# Altium footprint library V420LA10P.PcbLib: 1 footprints
Each footprint in its own frame and in the unit in brackets; x right, y up, seen from the top. Pads: shape width x height; smd on the part's side, far side on the other; paste and mask are expansions set on the pad; w line width, h text height; cw(c..) or ccw(c..) is an arc to the next point about the centre after c.
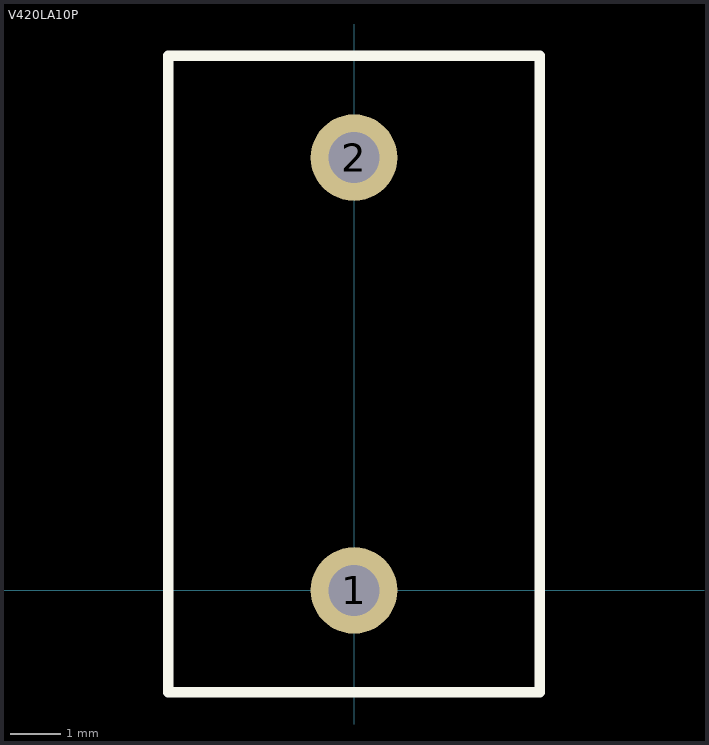
[diagram p0: the footprint, top view; thin cyan lines are the x and y axes]

## V420LA10P [mm] "420VAC 2.5kA Varistor"
pads (2):
  round 1.7 hole 1: 1(0,0) 2(0,8.5)
Top Overlay:
  lines w0.2: -3.65,-2 3.65,-2 3.65,10.5 -3.65,10.5 -3.65,-2